# Altium footprint library HB_Driver.PcbLib: 14 footprints
Each footprint in its own frame and in the unit in brackets; x right, y up, seen from the top. Pads: shape width x height; smd on the part's side, far side on the other; paste and mask are expansions set on the pad; w line width, h text height; cw(c..) or ccw(c..) is an arc to the next point about the centre after c.
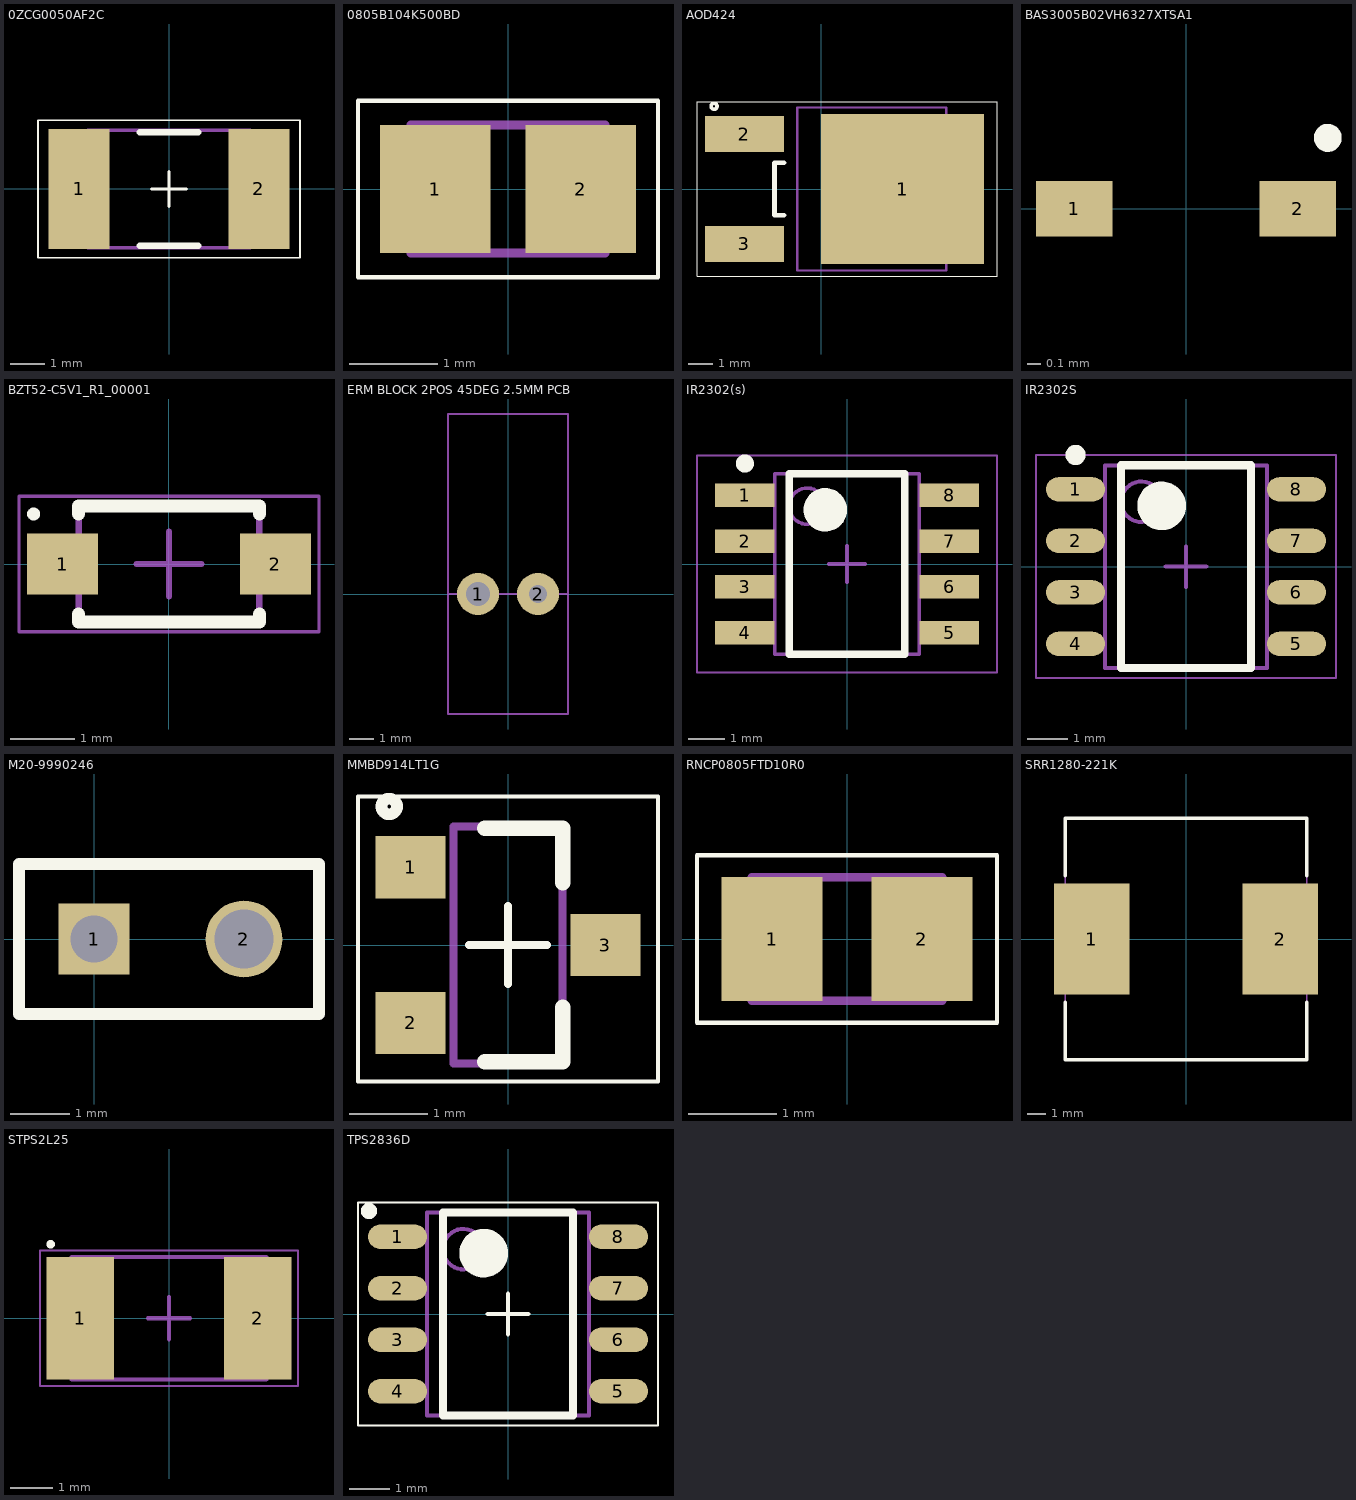
[diagram p0: the footprints below, top view; thin cyan lines are the x and y axes]

## 0ZCG0050AF2C [mm] "FUSE-0.5AH-1AT"
height 0.75
pads (2):
  rect 1.78x3.5 smd: 1(-2.615,0) 2(2.615,0)
Top Overlay:
  lines w0.05: -3.81,-2 3.81,-2 3.81,2 -3.81,2 -3.81,-2
  lines w0.1: -0.5,0 0.5,0 ; 0,-0.5 0,0.5
  lines w0.2: -0.85,-1.65 0.85,-1.65 ; -0.85,1.65 0.85,1.65
Mechanical 13:
  lines w0.1: -2.365,-1.705 2.365,-1.705 2.365,1.705 -2.365,1.705 -2.365,-1.705
3D body "0ZCG0050AF2C.step": height 0.75, standoff 0, extent -2.365,-1.705 2.365,1.705

## 0805B104K500BD [mm] "0.1uF_CER_CAP"
height 1
pads (2):
  rect 1.25x1.45 smd: 1(-0.825,0) 2(0.825,0)
Top Overlay:
  lines w0.05: -1.7,-1 -1.7,1 1.7,1 1.7,-1 -1.7,-1
Mechanical 13:
  lines w0.1: -1.1,-0.725 1.1,-0.725 1.1,0.725 -1.1,0.725 -1.1,-0.725
3D body "0805B104K500BD.step": height 1, standoff 0, extent -1.1,-0.725 1.1,0.725

## AOD424 [mm] "MOSFET N-CH 20V 18A/45A TO252"
height 2.4
pads (3):
  rect 6.8x6.25 smd: 1(3.4,0)
  rect 3.3x1.5 smd: 2(-3.2,2.29) 3(-3.2,-2.29)
Top Overlay:
  circle w0.15: c-4.47,3.454 r0.125
  lines w0.05: -5.182,-3.65 -5.182,3.65 7.341,3.65 7.341,-3.65 -5.182,-3.65
  lines w0.2: -1.55,-1.1 -1.95,-1.1 -1.95,1.1 -1.55,1.1
Mechanical 13:
  lines w0.1: -1,-3.4 -1,3.4 5.22,3.4 5.22,-3.4 -1,-3.4
3D body "AOD424.step": height 2.4, standoff 0, extent -3.908,-3.371 6.041,3.429

## BAS3005B02VH6327XTSA1 [mm]
height 0.6
pads (2):
  rect 0.55x0.4 smd: 1(-0.8,0) 2(0.8,0)
Top Overlay:
  circle w0.1: c1.016,0.508 r0.05
3D body "SODFL127P600-8N.step": height 0.6, standoff 0, extent -0.85,-0.45 0.85,0.45

## BZT52-C5V1_R1_00001 [mm] "SODFL, 2-Leads, Body 1.60x3.75mm, IPC Medium Density"
height 1.35
pads (2):
  rect 1.1x0.95 smd: 1(-1.65,0) 2(1.65,0)
Top Overlay:
  circle w0.1: c-2.1,0.775 r0.05
  lines w0.2: -1.4,-0.775 -1.4,-0.9 1.4,-0.9 1.4,-0.775 ; -1.4,0.775 -1.4,0.9 1.4,0.9 1.4,0.775
Mechanical 13:
  lines w0.1: -1.4,-0.9 1.4,-0.9 1.4,0.9 -1.4,0.9 -1.4,-0.9
Mechanical 15:
  lines w0.05: -2.325,-1.05 2.325,-1.05 2.325,1.05 -2.325,1.05 -2.325,-1.05
  lines w0.1: -0.5,0 0.5,0 ; 0,-0.5 0,0.5
3D body "BZT52-C5V1_R1_00001.step": height 1.35, standoff 0, extent -1.875,-0.9 1.875,0.9

## ERM BLOCK 2POS 45DEG 2.5MM PCB [mm]
pads (2):
  round 1.75 hole 1: 1(-1.25,0)
  round 1.75 hole 0.762: 2(1.25,0)
Mechanical 15:
  lines w0.1: 2.5,0 0,0 -2.5,0 ; -2.5,0 -2.5,7.5 2.5,7.5 2.5,-5 -2.5,-5 -2.5,0
  text "Front" at -1.5,6.016 h1.52
3D body: height 13.1, standoff 0, extent -2.5,-5 2.5,7.5

## IR2302(s) [mm] "SOIC, 8-Leads, Body 4.90x3.90mm, Pitch 1.27mm, IPC Low Density"
height 1.75
pads (8):
  rect 1.65x0.65 smd: 1(-2.825,1.905) 2(-2.825,0.635) 3(-2.825,-0.635) 4(-2.825,-1.905) 5(2.825,-1.905) 6(2.825,-0.635) 7(2.825,0.635) 8(2.825,1.905)
Top Overlay:
  circle w0.25: c-2.825,2.78 r0.125
  circle w0.6: c-0.6,1.5 r0.3
  lines w0.2: -1.6,-2.5 -1.6,2.5 1.6,2.5 1.6,-2.5 -1.6,-2.5
Mechanical 13:
  circle w0.1: c-1.1,1.6 r0.5
  lines w0.1: -2,-2.5 -2,2.5 2,2.5 2,-2.5 -2,-2.5
Mechanical 15:
  lines w0.05: -4.15,-3 -4.15,3 4.15,3 4.15,-3 -4.15,-3
  lines w0.1: -0.5,0 0.5,0 ; 0,-0.5 0,0.5
3D body "IR2302(s)1.step": height 1.75, standoff 0, extent -3,-2.5 3,2.5

## IR2302S [mm] "Synchronous_HG_Driver"
height 1.75
pads (8):
  oval 1.45x0.6 smd: 1(-2.725,1.905) 2(-2.725,0.635) 3(-2.725,-0.635) 4(-2.725,-1.905) 5(2.725,-1.905) 6(2.725,-0.635) 7(2.725,0.635) 8(2.725,1.905)
Top Overlay:
  circle w0.25: c-2.725,2.755 r0.125
  circle w0.6: c-0.6,1.5 r0.3
  lines w0.2: -1.6,-2.5 -1.6,2.5 1.6,2.5 1.6,-2.5 -1.6,-2.5
Mechanical 5:
  lines w0.05: -3.7,-2.75 -3.7,2.75 3.7,2.75 3.7,-2.75 -3.7,-2.75
  lines w0.1: -0.5,0 0.5,0 ; 0,-0.5 0,0.5
Mechanical 13:
  circle w0.1: c-1.1,1.6 r0.5
  lines w0.1: -2,-2.5 -2,2.5 2,2.5 2,-2.5 -2,-2.5
3D body "IR2302S.step": height 1.75, standoff 0, extent -3,-2.5 3,2.5

## M20-9990246 [mm] "1x2 PIN HEADER"
pads (2):
  rect 1.2x1.2 hole 0.8 square: 1(0,0)
  round 1.3 hole 1: 2(2.54,0)
Top Overlay:
  lines w0.2: -1.27,-1.27 -1.27,0 -1.27,1.27 3.81,1.27 3.81,-1.27 -1.27,-1.27
3D body "P(B,C)C02SAAN.STEP": height 7.48, standoff -3.19, extent -1.27,-1.27 3.81,1.27

## MMBD914LT1G [mm] "D-100V-200mA"
height 1.11
pads (3):
  rect 0.9x0.8 smd: 1(-1.25,1) 2(-1.25,-1) 3(1.25,0)
Top Overlay:
  circle w0.15: c-1.524,1.778 r0.1
  lines w0.05: -1.925,-1.75 -1.925,1.905 1.925,1.905 1.925,-1.75 -1.925,-1.75
  lines w0.1: -0.5,0 0.5,0 ; 0,-0.5 0,0.5
  lines w0.2: -0.3,-1.5 0.7,-1.5 0.7,-0.8 ; -0.3,1.5 0.7,1.5 0.7,0.8
Mechanical 13:
  lines w0.1: -0.7,-1.52 -0.7,1.52 0.7,1.52 0.7,-1.52 -0.7,-1.52
3D body "MMBD914LT1G.step": height 1.11, standoff 0, extent -1.32,-1.52 1.32,1.52

## RNCP0805FTD10R0 [mm] "RES 10 OHM 1% 1/4W 0805"
height 0.65
pads (2):
  rect 1.15x1.4 smd: 1(-0.85,0) 2(0.85,0)
Top Overlay:
  lines w0.05: -1.7,-0.95 -1.7,0.95 1.7,0.95 1.7,-0.95 -1.7,-0.95
Mechanical 13:
  lines w0.1: -1.075,-0.7 -1.075,0.7 1.075,0.7 1.075,-0.7 -1.075,-0.7
3D body "RNCP0805FTD10R0.step": height 0.65, standoff 0, extent -1.075,-0.7 1.075,0.7

## SRR1280-221K [mm] "Precision Wire Wound Inductor, 2-Leads, Body 12.50x12.50mm, IPC Medium Density"
height 8
pads (2):
  rect 4x5.9 smd: 1(-5,0) 2(5,0)
Top Overlay:
  lines w0.2: -6.4,-3.35 -6.4,-6.4 6.4,-6.4 6.4,-3.35 ; -6.4,3.35 -6.4,6.4 6.4,6.4 6.4,3.35
Mechanical 13:
  lines w0.1: -6.4,-6.4 -6.4,6.4 6.4,6.4 6.4,-6.4 -6.4,-6.4
3D body "SRR1280-221K.step": height 8.1, standoff 0, extent -6.35,-6.25 6.35,6.25

## STPS2L25 [mm] "SMA Flat Notch  IPC Medium Density"
height 1.1
pads (2):
  rect 1.6x2.9 smd: 1(-2.1,0) 2(2.1,0)
Top Overlay:
  circle w0.1: c-2.8,1.75 r0.05
Mechanical 13:
  lines w0.1: -2.3,-1.45 2.3,-1.45 2.3,1.45 -2.3,1.45 -2.3,-1.45
Mechanical 15:
  lines w0.05: -3.05,-1.6 3.05,-1.6 3.05,1.6 -3.05,1.6 -3.05,-1.6
  lines w0.1: -0.5,0 0.5,0 ; 0,-0.5 0,0.5
3D body "STPS2L25.step": height 1.1, standoff 0, extent -2.588,-1.45 2.588,1.45

## TPS2836D [mm] "SYN-MOS-DRI"
height 1.75
pads (8):
  oval 1.45x0.6 smd: 1(-2.725,1.905) 2(-2.725,0.635) 3(-2.725,-0.635) 4(-2.725,-1.905) 5(2.725,-1.905) 6(2.725,-0.635) 7(2.725,0.635) 8(2.725,1.905)
Top Overlay:
  circle w0.2: c-3.429,2.54 r0.1
  circle w0.6: c-0.6,1.5 r0.3
  lines w0.05: -3.7,-2.75 3.7,-2.75 3.7,2.75 -3.7,2.75 -3.7,-2.75
  lines w0.1: -0.5,0 0.5,0 ; 0,-0.5 0,0.5
  lines w0.2: -1.6,-2.5 -1.6,2.5 1.6,2.5 1.6,-2.5 -1.6,-2.5
Mechanical 13:
  circle w0.1: c-1.1,1.6 r0.5
  lines w0.1: -2,-2.5 -2,2.5 2,2.5 2,-2.5 -2,-2.5
3D body "TPS2836D.step": height 1.75, standoff 0, extent -3,-2.5 3,2.5